# Altium integrated library Linear Technology Power Management uModule Regulators.IntLib: 166 symbols (part 58 of 67)
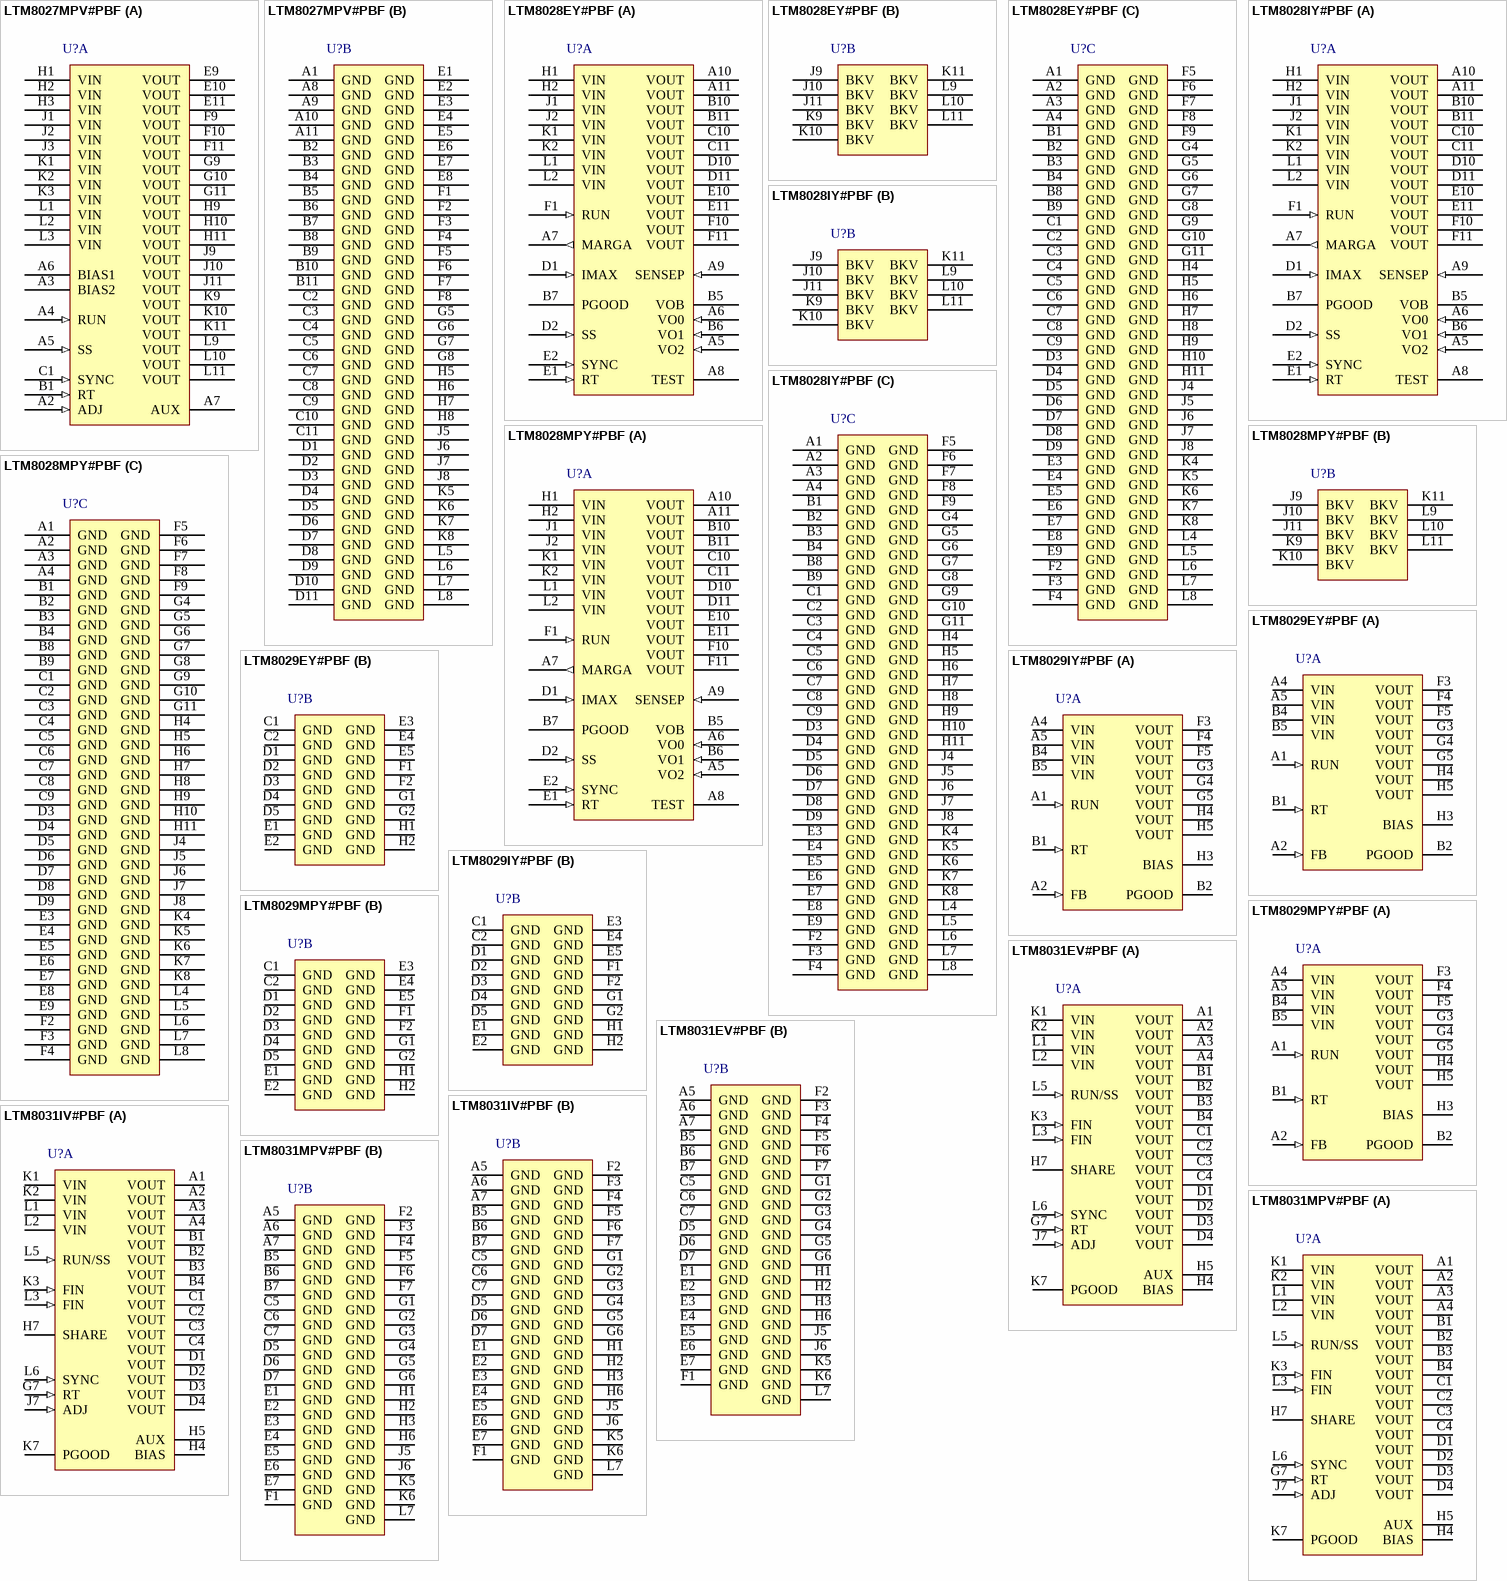
[diagram p84: symbols LTM8027MPV#PBF to LTM8031MPV#PBF]

## LTM8029MPY#PBF
designator U?
36 VIN, 600 mA Step-Down uModule Converter with 5 uA Quiescent Current, 35-pin BGA, -55 to 125 degC, Pb-Free, Tray; Manufacturer: Linear Technology; PartNumber: LTM8029MPY#PBF; Extended Temp: E, I, MP; Frequency Adjust Range: 200kHz - 2.2MHz; Frequency(kHz): 2200; Ishutdown(uA): 0.9; Isupply(mA): 0.005; Number of Outputs: 1; Output Current(A): 0.6; Synchronous: no; Topology: Buck; Vin Max(V): 36; Vin Min(V): 4.5; Vout Max(V): 18; Vout Min(V): 1.2; DatasheetVersion: Rev. A; PackageVersion: Rev. A, 01/2013; PackageReference: BGA-35; PackageDescription: 35-Ball BGA, Body 11.25 x 6.25 mm, Pitch 1.27 mm; Supplier 1: Digi-Key; Supplier Part Number 1: LTM8029MPY#PBF-ND; Supplier 2: Newark; Supplier Part Number 2: 87T1009; Packing: Tray; RoHS: TRUE; Switch Current(A): 1; Tracking: no; Mounting Technology: Surface Mount; Code_JEDEC: MS-028; ComponentLink1Description: Manufacturer URL; ComponentLink1URL: http://www.linear.com/; ComponentLink2Description: Datasheet; ComponentLink2URL: http://cds.linear.com/docs/en/datasheet/8029fa.pdf; ComponentLink3Description: Package Specification; ComponentLink3URL: http://cds.linear.com/docs/en/packaging/05081878_A_bga35.pdf
footprint LT-BGA-35-11250X6250X3420 (BGA, 35-Balls, Body 11.25x6.25mm, Pitch 1.27mm)
part A pins: A1 RUN (in) "Pull the RUN pin below 0.95V to shut down the LTM8029. Tie to 1.3V or more for normal operation. If the shutdown feature is not used, tie this pin to VIN.", A2 FB (in) "The LTM8029 regulates its FB pin to 1.2V. Connect the output feedback resistor from this pin to ground. The value of RFB is given by the equation RFB = 1200/(VOUT - 1.2), where RFB is in kohm.", A4 VIN (power) "The VIN pins supply current to the LTM8029’s internal regulator and to the internal power switch. This pin must be locally bypassed with an external, low ESR capacitor; see Table 1 for recommended values.", A5 VIN (power) "The VIN pins supply current to the LTM8029’s internal regulator and to the internal power switch. This pin must be locally bypassed with an external, low ESR capacitor; see Table 1 for recommended values.", B1 RT (in) "The RT pin is used to program the switching frequency of the LTM8029 by connecting a resistor from this pin to ground. The Applications Information section of the data sheet includes a table to determine the resistance value (See Datasheet)", B2 PGOOD (oc) "The PGOOD pin is the open-collector output of an internal comparator that monitors the FB pin. PGOOD remains low until the FB pin is within 10% of the final regulation voltage. PGOOD output is valid when VIN is above 4.5V (See Datasheet)", B4 VIN (power) "The VIN pins supply current to the LTM8029’s internal regulator and to the internal power switch. This pin must be locally bypassed with an external, low ESR capacitor; see Table 1 for recommended values.", B5 VIN (power) "The VIN pins supply current to the LTM8029’s internal regulator and to the internal power switch. This pin must be locally bypassed with an external, low ESR capacitor; see Table 1 for recommended values.", F3 VOUT (power) "Power Output Pins. Apply the output filter capacitor and the output load between these pins and GND pins.", F4 VOUT (power) "Power Output Pins. Apply the output filter capacitor and the output load between these pins and GND pins.", F5 VOUT (power) "Power Output Pins. Apply the output filter capacitor and the output load between these pins and GND pins.", G3 VOUT (power) "Power Output Pins. Apply the output filter capacitor and the output load between these pins and GND pins.", G4 VOUT (power) "Power Output Pins. Apply the output filter capacitor and the output load between these pins and GND pins.", G5 VOUT (power) "Power Output Pins. Apply the output filter capacitor and the output load between these pins and GND pins.", H3 BIAS (power) "The BIAS pin powers internal circuitry. Connect to a power source greater than 2.25V and less than 20V. If the output is greater than 2.25V, connect this pin there. Also, make sure that BIAS + VIN is less than 55V.", H4 VOUT (power) "Power Output Pins. Apply the output filter capacitor and the output load between these pins and GND pins.", H5 VOUT (power) "Power Output Pins. Apply the output filter capacitor and the output load between these pins and GND pins."
part B pins: C1 GND (power) "Tie these GND pins to a local ground plane below the LTM8029 and the circuit components. In most applications the bulk of the heat flow out of the LTM8029 is through these pads, so the printed circuit design has a large (See Datasheet)", C2 GND (power) "Tie these GND pins to a local ground plane below the LTM8029 and the circuit components. In most applications the bulk of the heat flow out of the LTM8029 is through these pads, so the printed circuit design has a large (See Datasheet)", D1 GND (power) "Tie these GND pins to a local ground plane below the LTM8029 and the circuit components. In most applications the bulk of the heat flow out of the LTM8029 is through these pads, so the printed circuit design has a large (See Datasheet)", D2 GND (power) "Tie these GND pins to a local ground plane below the LTM8029 and the circuit components. In most applications the bulk of the heat flow out of the LTM8029 is through these pads, so the printed circuit design has a large (See Datasheet)", D3 GND (power) "Tie these GND pins to a local ground plane below the LTM8029 and the circuit components. In most applications the bulk of the heat flow out of the LTM8029 is through these pads, so the printed circuit design has a large (See Datasheet)", D4 GND (power) "Tie these GND pins to a local ground plane below the LTM8029 and the circuit components. In most applications the bulk of the heat flow out of the LTM8029 is through these pads, so the printed circuit design has a large (See Datasheet)", D5 GND (power) "Tie these GND pins to a local ground plane below the LTM8029 and the circuit components. In most applications the bulk of the heat flow out of the LTM8029 is through these pads, so the printed circuit design has a large (See Datasheet)", E1 GND (power) "Tie these GND pins to a local ground plane below the LTM8029 and the circuit components. In most applications the bulk of the heat flow out of the LTM8029 is through these pads, so the printed circuit design has a large (See Datasheet)", E2 GND (power) "Tie these GND pins to a local ground plane below the LTM8029 and the circuit components. In most applications the bulk of the heat flow out of the LTM8029 is through these pads, so the printed circuit design has a large (See Datasheet)", E3 GND (power) "Tie these GND pins to a local ground plane below the LTM8029 and the circuit components. In most applications the bulk of the heat flow out of the LTM8029 is through these pads, so the printed circuit design has a large (See Datasheet)", E4 GND (power) "Tie these GND pins to a local ground plane below the LTM8029 and the circuit components. In most applications the bulk of the heat flow out of the LTM8029 is through these pads, so the printed circuit design has a large (See Datasheet)", E5 GND (power) "Tie these GND pins to a local ground plane below the LTM8029 and the circuit components. In most applications the bulk of the heat flow out of the LTM8029 is through these pads, so the printed circuit design has a large (See Datasheet)", F1 GND (power) "Tie these GND pins to a local ground plane below the LTM8029 and the circuit components. In most applications the bulk of the heat flow out of the LTM8029 is through these pads, so the printed circuit design has a large (See Datasheet)", F2 GND (power) "Tie these GND pins to a local ground plane below the LTM8029 and the circuit components. In most applications the bulk of the heat flow out of the LTM8029 is through these pads, so the printed circuit design has a large (See Datasheet)", G1 GND (power) "Tie these GND pins to a local ground plane below the LTM8029 and the circuit components. In most applications the bulk of the heat flow out of the LTM8029 is through these pads, so the printed circuit design has a large (See Datasheet)", G2 GND (power) "Tie these GND pins to a local ground plane below the LTM8029 and the circuit components. In most applications the bulk of the heat flow out of the LTM8029 is through these pads, so the printed circuit design has a large (See Datasheet)", H1 GND (power) "Tie these GND pins to a local ground plane below the LTM8029 and the circuit components. In most applications the bulk of the heat flow out of the LTM8029 is through these pads, so the printed circuit design has a large (See Datasheet)", H2 GND (power) "Tie these GND pins to a local ground plane below the LTM8029 and the circuit components. In most applications the bulk of the heat flow out of the LTM8029 is through these pads, so the printed circuit design has a large (See Datasheet)"

## LTM8031EV#PBF
designator U?
Ultralow Noise EMC 36 V, 1 A DC/DC uModule Regulator, 71-pin LGA, -40 to 125 degC, Pb-Free, Tray; Manufacturer: Linear Technology; PartNumber: LTM8031EV#PBF; Extended Temp: E, I, MP; Frequency Adjust Range: 200kHz - 2.4MHz; Frequency Sync Range: 250kHz - 2MHz; Frequency(kHz): 2400; Ishutdown(uA): 1; Isupply(mA): 0.06; Switch Current(A): 1.5; Synchronous: no; Topology: Buck; Vin Max(V): 36; Vin Min(V): 3.6; Vout Max(V): 10; Vout Min(V): 0.8; DatasheetVersion: Rev. B; PackageVersion: Rev. A, 01/2013; PackageReference: LGA-71; PackageDescription: 71-Pin LGA, Body 15 x 9 mm, Pitch 1.27 mm; Supplier 1: Digi-Key; Supplier Part Number 1: LTM8031EV#PBF-ND; Supplier 2: Farnell; Supplier Part Number 2: 2308636; Supplier 3: Newark; Supplier Part Number 3: 68R7661; Number of Outputs: 1; Output Current(A): 1; Packing: Tray; RoHS: TRUE; Tracking: no; Mounting Technology: Surface Mount; Code_JEDEC: MO-222; ComponentLink1Description: Manufacturer URL; ComponentLink1URL: http://www.linear.com/; ComponentLink2Description: Datasheet; ComponentLink2URL: http://cds.linear.com/docs/en/datasheet/8031fb.pdf; ComponentLink3Description: Package Specification; ComponentLink3URL: http://cds.linear.com/docs/en/packaging/05081823_A_lga71.pdf
footprint LT-LGA-71-15000X9000X2820_V (LGA, 71-Leads, Body 15x9mm, Pitch 1.27mm)
part A pins: A1 VOUT (power) "Power Output Pins. Apply the output filter capacitor and the output load between these pins and GND pins.", A2 VOUT (power) "Power Output Pins. Apply the output filter capacitor and the output load between these pins and GND pins.", A3 VOUT (power) "Power Output Pins. Apply the output filter capacitor and the output load between these pins and GND pins.", A4 VOUT (power) "Power Output Pins. Apply the output filter capacitor and the output load between these pins and GND pins.", B1 VOUT (power) "Power Output Pins. Apply the output filter capacitor and the output load between these pins and GND pins.", B2 VOUT (power) "Power Output Pins. Apply the output filter capacitor and the output load between these pins and GND pins.", B3 VOUT (power) "Power Output Pins. Apply the output filter capacitor and the output load between these pins and GND pins.", B4 VOUT (power) "Power Output Pins. Apply the output filter capacitor and the output load between these pins and GND pins.", C1 VOUT (power) "Power Output Pins. Apply the output filter capacitor and the output load between these pins and GND pins.", C2 VOUT (power) "Power Output Pins. Apply the output filter capacitor and the output load between these pins and GND pins.", C3 VOUT (power) "Power Output Pins. Apply the output filter capacitor and the output load between these pins and GND pins.", C4 VOUT (power) "Power Output Pins. Apply the output filter capacitor and the output load between these pins and GND pins.", D1 VOUT (power) "Power Output Pins. Apply the output filter capacitor and the output load between these pins and GND pins.", D2 VOUT (power) "Power Output Pins. Apply the output filter capacitor and the output load between these pins and GND pins.", D3 VOUT (power) "Power Output Pins. Apply the output filter capacitor and the output load between these pins and GND pins.", D4 VOUT (power) "Power Output Pins. Apply the output filter capacitor and the output load between these pins and GND pins.", G7 RT (in), H4 BIAS (power) "The BIAS pin connects to the internal power bus. Connect to a power source greater than 2.8V. If the output is greater than 2.8V, connect this pin to AUX. If the output voltage is less, connect this to a voltage source (See Datasheet)", H5 AUX (power) "Low Current Voltage Source for BIAS. The AUX pin is internally connected to VOUT and is placed adjacent to the BIAS pin to ease printed circuit board routing. Although this pin is internally connected to VOUT, do not connect (See Datasheet)", H7 SHARE, J7 ADJ (in), K1 VIN (power), K2 VIN (power), K3 FIN (in) "Filtered Input. This is the node after the input EMI filter. Use this only if there is a need to modify the behavior of the integrated EMI filter or if VIN rises or falls rapidly; otherwise, leave these pins unconnected. See (See Datasheet)", K7 PGOOD (oc) "The PGOOD pin is the open-collector output of an internal comparator. PGOOD remains low until the ADJ pin is within 10% of the final regulation voltage. The PGOOD output is valid when VIN is above 3.6V and RUN/SS is high. If (See Datasheet)", L1 VIN (power), L2 VIN (power), L3 FIN (in) "Filtered Input. This is the node after the input EMI filter. Use this only if there is a need to modify the behavior of the integrated EMI filter or if VIN rises or falls rapidly; otherwise, leave these pins unconnected. See (See Datasheet)", L5 RUN/SS (in), L6 SYNC (in) "This is the external clock synchronization input. Ground this pin for low ripple Burst Mode(R) operation at low output loads. Tie to a stable voltage source greater than 0.7V to disable Burst Mode operation. Do not leave (See Datasheet)"
part B pins: A5 GND (power), A6 GND (power), A7 GND (power), B5 GND (power), B6 GND (power), B7 GND (power), C5 GND (power), C6 GND (power), C7 GND (power), D5 GND (power), D6 GND (power), D7 GND (power), E1 GND (power), E2 GND (power), E3 GND (power), E4 GND (power), E5 GND (power), E6 GND (power), E7 GND (power), F1 GND (power), F2 GND (power), F3 GND (power), F4 GND (power), F5 GND (power), F6 GND (power), F7 GND (power), G1 GND (power), G2 GND (power), G3 GND (power), G4 GND (power), G5 GND (power), G6 GND (power), H1 GND (power), H2 GND (power), H3 GND (power), H6 GND (power), J5 GND (power), J6 GND (power), K5 GND (power), K6 GND (power), L7 GND (power)

## LTM8031IV#PBF
designator U?
Ultralow Noise EMC 36 V, 1 A DC/DC uModule Regulator, 71-pin LGA, -40 to 125 degC, Pb-Free, Tray; Manufacturer: Linear Technology; PartNumber: LTM8031IV#PBF; Extended Temp: E, I, MP; Frequency Adjust Range: 200kHz - 2.4MHz; Frequency Sync Range: 250kHz - 2MHz; Frequency(kHz): 2400; Ishutdown(uA): 1; Isupply(mA): 0.06; Switch Current(A): 1.5; Synchronous: no; Topology: Buck; Vin Max(V): 36; Vin Min(V): 3.6; Vout Max(V): 10; Vout Min(V): 0.8; DatasheetVersion: Rev. B; PackageVersion: Rev. A, 01/2013; PackageReference: LGA-71; PackageDescription: 71-Pin LGA, Body 15 x 9 mm, Pitch 1.27 mm; Supplier 1: Digi-Key; Supplier Part Number 1: LTM8031IV#PBF-ND; Supplier 2: Farnell; Supplier Part Number 2: 2115895; Supplier 3: Newark; Supplier Part Number 3: 68R7662; Number of Outputs: 1; Output Current(A): 1; Packing: Tray; RoHS: TRUE; Tracking: no; Mounting Technology: Surface Mount; Code_JEDEC: MO-222; ComponentLink1Description: Manufacturer URL; ComponentLink1URL: http://www.linear.com/; ComponentLink2Description: Datasheet; ComponentLink2URL: http://cds.linear.com/docs/en/datasheet/8031fb.pdf; ComponentLink3Description: Package Specification; ComponentLink3URL: http://cds.linear.com/docs/en/packaging/05081823_A_lga71.pdf
footprint LT-LGA-71-15000X9000X2820_V (LGA, 71-Leads, Body 15x9mm, Pitch 1.27mm)
part A pins: A1 VOUT (power) "Power Output Pins. Apply the output filter capacitor and the output load between these pins and GND pins.", A2 VOUT (power) "Power Output Pins. Apply the output filter capacitor and the output load between these pins and GND pins.", A3 VOUT (power) "Power Output Pins. Apply the output filter capacitor and the output load between these pins and GND pins.", A4 VOUT (power) "Power Output Pins. Apply the output filter capacitor and the output load between these pins and GND pins.", B1 VOUT (power) "Power Output Pins. Apply the output filter capacitor and the output load between these pins and GND pins.", B2 VOUT (power) "Power Output Pins. Apply the output filter capacitor and the output load between these pins and GND pins.", B3 VOUT (power) "Power Output Pins. Apply the output filter capacitor and the output load between these pins and GND pins.", B4 VOUT (power) "Power Output Pins. Apply the output filter capacitor and the output load between these pins and GND pins.", C1 VOUT (power) "Power Output Pins. Apply the output filter capacitor and the output load between these pins and GND pins.", C2 VOUT (power) "Power Output Pins. Apply the output filter capacitor and the output load between these pins and GND pins.", C3 VOUT (power) "Power Output Pins. Apply the output filter capacitor and the output load between these pins and GND pins.", C4 VOUT (power) "Power Output Pins. Apply the output filter capacitor and the output load between these pins and GND pins.", D1 VOUT (power) "Power Output Pins. Apply the output filter capacitor and the output load between these pins and GND pins.", D2 VOUT (power) "Power Output Pins. Apply the output filter capacitor and the output load between these pins and GND pins.", D3 VOUT (power) "Power Output Pins. Apply the output filter capacitor and the output load between these pins and GND pins.", D4 VOUT (power) "Power Output Pins. Apply the output filter capacitor and the output load between these pins and GND pins.", G7 RT (in), H4 BIAS (power) "The BIAS pin connects to the internal power bus. Connect to a power source greater than 2.8V. If the output is greater than 2.8V, connect this pin to AUX. If the output voltage is less, connect this to a voltage source (See Datasheet)", H5 AUX (power) "Low Current Voltage Source for BIAS. The AUX pin is internally connected to VOUT and is placed adjacent to the BIAS pin to ease printed circuit board routing. Although this pin is internally connected to VOUT, do not connect (See Datasheet)", H7 SHARE, J7 ADJ (in), K1 VIN (power), K2 VIN (power), K3 FIN (in) "Filtered Input. This is the node after the input EMI filter. Use this only if there is a need to modify the behavior of the integrated EMI filter or if VIN rises or falls rapidly; otherwise, leave these pins unconnected. See (See Datasheet)", K7 PGOOD (oc) "The PGOOD pin is the open-collector output of an internal comparator. PGOOD remains low until the ADJ pin is within 10% of the final regulation voltage. The PGOOD output is valid when VIN is above 3.6V and RUN/SS is high. If (See Datasheet)", L1 VIN (power), L2 VIN (power), L3 FIN (in) "Filtered Input. This is the node after the input EMI filter. Use this only if there is a need to modify the behavior of the integrated EMI filter or if VIN rises or falls rapidly; otherwise, leave these pins unconnected. See (See Datasheet)", L5 RUN/SS (in), L6 SYNC (in) "This is the external clock synchronization input. Ground this pin for low ripple Burst Mode(R) operation at low output loads. Tie to a stable voltage source greater than 0.7V to disable Burst Mode operation. Do not leave (See Datasheet)"
part B pins: A5 GND (power), A6 GND (power), A7 GND (power), B5 GND (power), B6 GND (power), B7 GND (power), C5 GND (power), C6 GND (power), C7 GND (power), D5 GND (power), D6 GND (power), D7 GND (power), E1 GND (power), E2 GND (power), E3 GND (power), E4 GND (power), E5 GND (power), E6 GND (power), E7 GND (power), F1 GND (power), F2 GND (power), F3 GND (power), F4 GND (power), F5 GND (power), F6 GND (power), F7 GND (power), G1 GND (power), G2 GND (power), G3 GND (power), G4 GND (power), G5 GND (power), G6 GND (power), H1 GND (power), H2 GND (power), H3 GND (power), H6 GND (power), J5 GND (power), J6 GND (power), K5 GND (power), K6 GND (power), L7 GND (power)

## LTM8031MPV#PBF
designator U?
Ultralow Noise EMC 36 V, 1 A DC/DC uModule Regulator, 71-pin LGA, -55 to 125 degC, Pb-Free, Tray; Manufacturer: Linear Technology; PartNumber: LTM8031MPV#PBF; Extended Temp: E, I, MP; Frequency Adjust Range: 200kHz - 2.4MHz; Frequency Sync Range: 250kHz - 2MHz; Frequency(kHz): 2400; Ishutdown(uA): 1; Isupply(mA): 0.06; Switch Current(A): 1.5; Synchronous: no; Topology: Buck; Vin Max(V): 36; Vin Min(V): 3.6; Vout Max(V): 10; Vout Min(V): 0.8; DatasheetVersion: Rev. B; PackageVersion: Rev. A, 01/2013; PackageReference: LGA-71; PackageDescription: 71-Pin LGA, Body 15 x 9 mm, Pitch 1.27 mm; Supplier 1: Digi-Key; Supplier Part Number 1: LTM8031MPV#PBF-ND; Supplier 2: Farnell; Supplier Part Number 2: 1847471; Supplier 3: Farnell; Supplier Part Number 3: 1838297; Supplier 4: Newark; Supplier Part Number 4: 84R5011; Number of Outputs: 1; Output Current(A): 1; Packing: Tray; RoHS: TRUE; Tracking: no; Mounting Technology: Surface Mount; Code_JEDEC: MO-222; ComponentLink1Description: Manufacturer URL; ComponentLink1URL: http://www.linear.com/; ComponentLink2Description: Datasheet; ComponentLink2URL: http://cds.linear.com/docs/en/datasheet/8031fb.pdf; ComponentLink3Description: Package Specification; ComponentLink3URL: http://cds.linear.com/docs/en/packaging/05081823_A_lga71.pdf
footprint LT-LGA-71-15000X9000X2820_V (LGA, 71-Leads, Body 15x9mm, Pitch 1.27mm)
part A pins: A1 VOUT (power) "Power Output Pins. Apply the output filter capacitor and the output load between these pins and GND pins.", A2 VOUT (power) "Power Output Pins. Apply the output filter capacitor and the output load between these pins and GND pins.", A3 VOUT (power) "Power Output Pins. Apply the output filter capacitor and the output load between these pins and GND pins.", A4 VOUT (power) "Power Output Pins. Apply the output filter capacitor and the output load between these pins and GND pins.", B1 VOUT (power) "Power Output Pins. Apply the output filter capacitor and the output load between these pins and GND pins.", B2 VOUT (power) "Power Output Pins. Apply the output filter capacitor and the output load between these pins and GND pins.", B3 VOUT (power) "Power Output Pins. Apply the output filter capacitor and the output load between these pins and GND pins.", B4 VOUT (power) "Power Output Pins. Apply the output filter capacitor and the output load between these pins and GND pins.", C1 VOUT (power) "Power Output Pins. Apply the output filter capacitor and the output load between these pins and GND pins.", C2 VOUT (power) "Power Output Pins. Apply the output filter capacitor and the output load between these pins and GND pins.", C3 VOUT (power) "Power Output Pins. Apply the output filter capacitor and the output load between these pins and GND pins.", C4 VOUT (power) "Power Output Pins. Apply the output filter capacitor and the output load between these pins and GND pins.", D1 VOUT (power) "Power Output Pins. Apply the output filter capacitor and the output load between these pins and GND pins.", D2 VOUT (power) "Power Output Pins. Apply the output filter capacitor and the output load between these pins and GND pins.", D3 VOUT (power) "Power Output Pins. Apply the output filter capacitor and the output load between these pins and GND pins.", D4 VOUT (power) "Power Output Pins. Apply the output filter capacitor and the output load between these pins and GND pins.", G7 RT (in), H4 BIAS (power) "The BIAS pin connects to the internal power bus. Connect to a power source greater than 2.8V. If the output is greater than 2.8V, connect this pin to AUX. If the output voltage is less, connect this to a voltage source (See Datasheet)", H5 AUX (power) "Low Current Voltage Source for BIAS. The AUX pin is internally connected to VOUT and is placed adjacent to the BIAS pin to ease printed circuit board routing. Although this pin is internally connected to VOUT, do not connect (See Datasheet)", H7 SHARE, J7 ADJ (in), K1 VIN (power), K2 VIN (power), K3 FIN (in) "Filtered Input. This is the node after the input EMI filter. Use this only if there is a need to modify the behavior of the integrated EMI filter or if VIN rises or falls rapidly; otherwise, leave these pins unconnected. See (See Datasheet)", K7 PGOOD (oc) "The PGOOD pin is the open-collector output of an internal comparator. PGOOD remains low until the ADJ pin is within 10% of the final regulation voltage. The PGOOD output is valid when VIN is above 3.6V and RUN/SS is high. If (See Datasheet)", L1 VIN (power), L2 VIN (power), L3 FIN (in) "Filtered Input. This is the node after the input EMI filter. Use this only if there is a need to modify the behavior of the integrated EMI filter or if VIN rises or falls rapidly; otherwise, leave these pins unconnected. See (See Datasheet)", L5 RUN/SS (in), L6 SYNC (in) "This is the external clock synchronization input. Ground this pin for low ripple Burst Mode(R) operation at low output loads. Tie to a stable voltage source greater than 0.7V to disable Burst Mode operation. Do not leave (See Datasheet)"
part B pins: A5 GND (power), A6 GND (power), A7 GND (power), B5 GND (power), B6 GND (power), B7 GND (power), C5 GND (power), C6 GND (power), C7 GND (power), D5 GND (power), D6 GND (power), D7 GND (power), E1 GND (power), E2 GND (power), E3 GND (power), E4 GND (power), E5 GND (power), E6 GND (power), E7 GND (power), F1 GND (power), F2 GND (power), F3 GND (power), F4 GND (power), F5 GND (power), F6 GND (power), F7 GND (power), G1 GND (power), G2 GND (power), G3 GND (power), G4 GND (power), G5 GND (power), G6 GND (power), H1 GND (power), H2 GND (power), H3 GND (power), H6 GND (power), J5 GND (power), J6 GND (power), K5 GND (power), K6 GND (power), L7 GND (power)

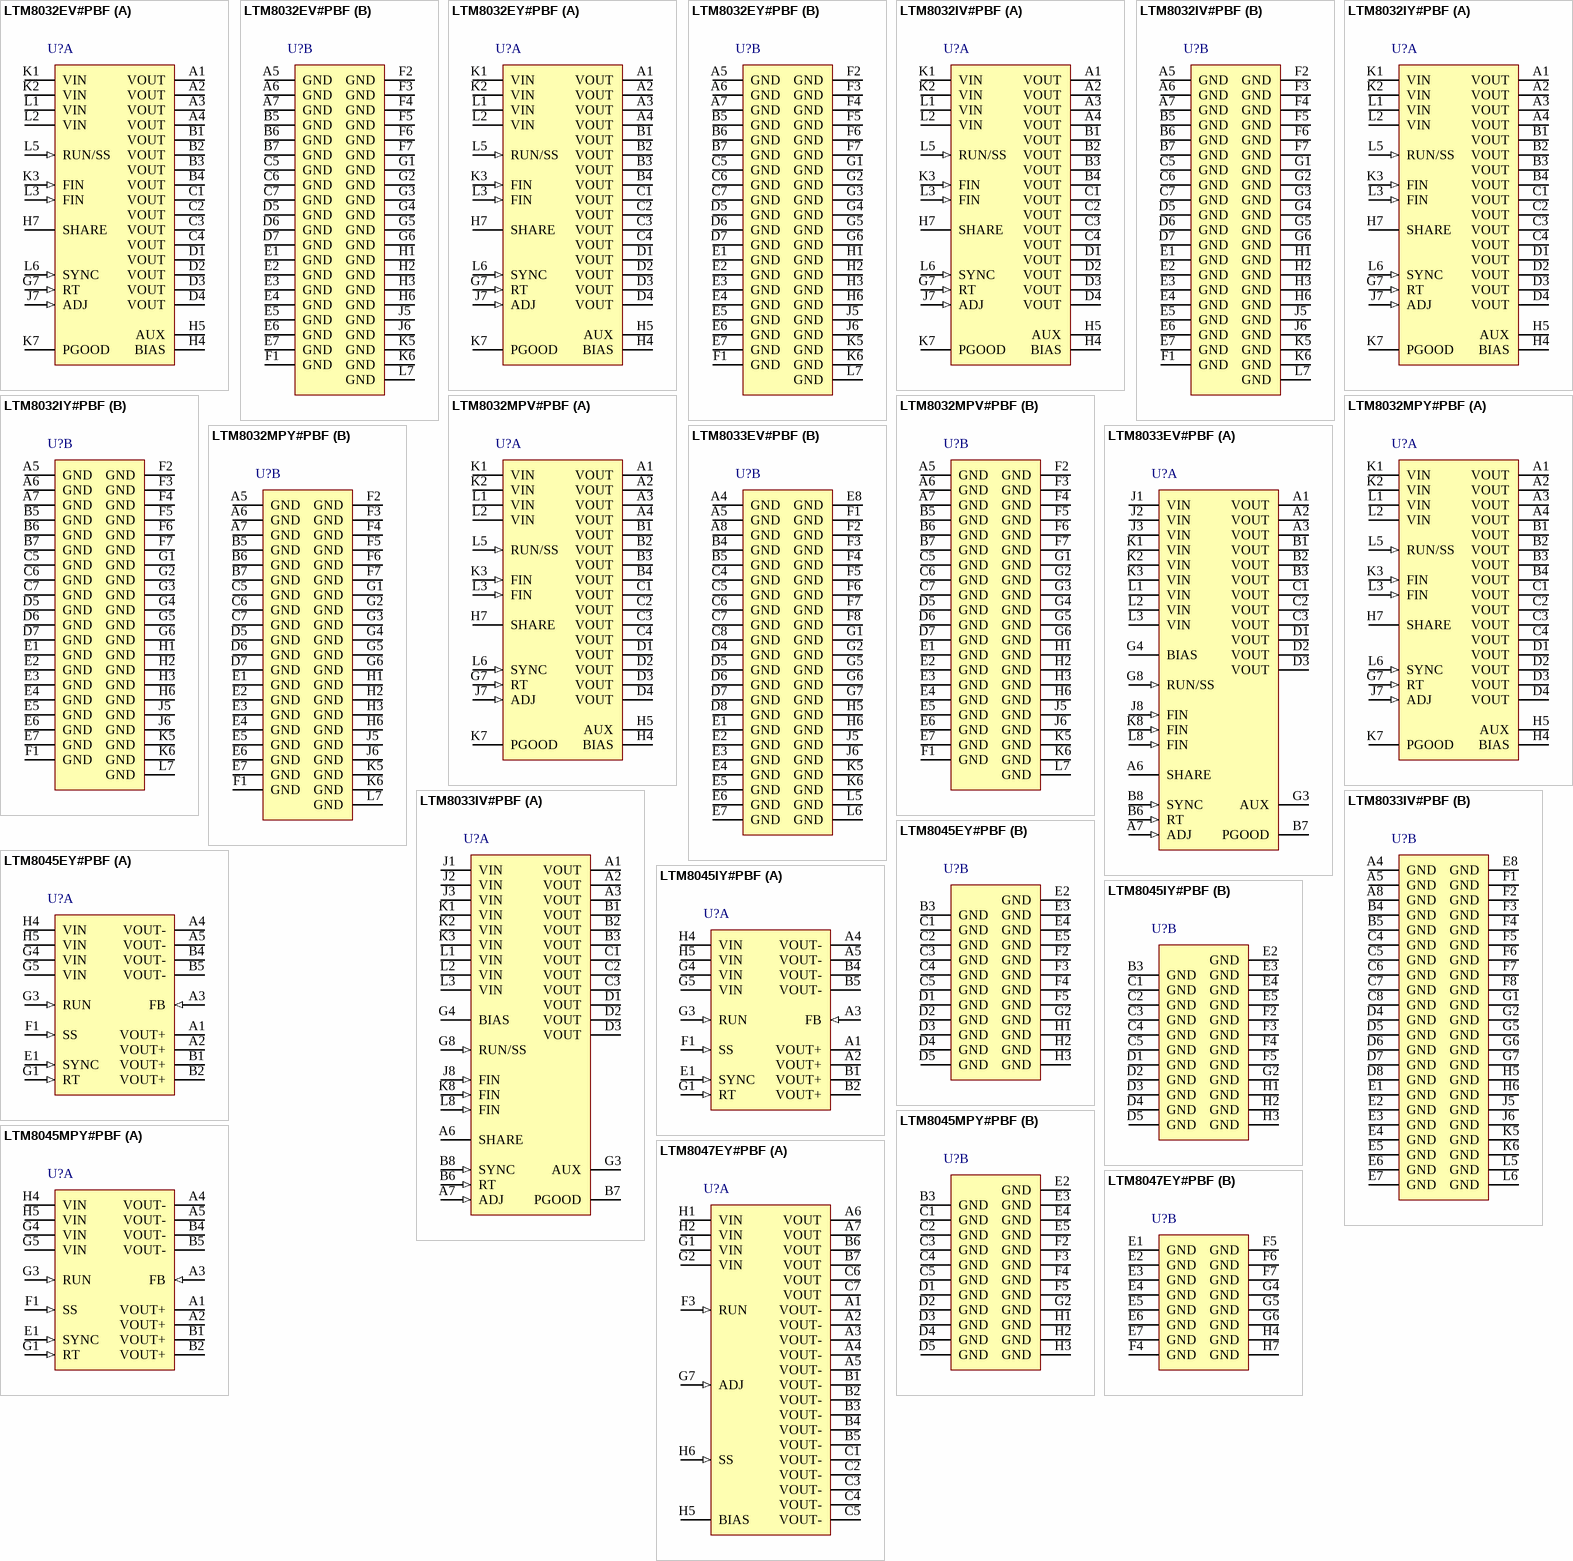
[diagram p24: symbols LTM8032EV#PBF to LTM8047EY#PBF]

## LTM8032EV#PBF
designator U?
EN55022B Compliant 36 V, 2 A DC/DC uModule Regulator, 71-pin LGA, -40 to 125 degC, Pb-Free, Tray; Manufacturer: Linear Technology; PartNumber: LTM8032EV#PBF; Extended Temp: E, I, MP; Frequency Adjust Range: 200kHz - 2.4MHz; Frequency Sync Range: 250kHz - 2MHz; Frequency(kHz): 2400; Ishutdown(uA): 1; Isupply(mA): 0.025; Output Current(A): 2; Switch Current(A): 3; Synchronous: no; Topology: Buck; Vin Max(V): 36; Vin Min(V): 3.6; DatasheetVersion: Rev. F; PackageVersion: Rev. A, 01/2013; PackageReference: LGA-71; PackageDescription: 71-Pin LGA, Body 15 x 9 mm, Pitch 1.27 mm; Supplier 1: Digi-Key; Supplier Part Number 1: LTM8032EV#PBF-ND; Supplier 2: Farnell; Supplier Part Number 2: 1799832; Supplier 3: Newark; Supplier Part Number 3: 56P4238; Number of Outputs: 1; Packing: Tray; RoHS: TRUE; Tracking: no; Mounting Technology: Surface Mount; Code_JEDEC: MO-222; ComponentLink1Description: Manufacturer URL; ComponentLink1URL: http://www.linear.com/; ComponentLink2Description: Datasheet; ComponentLink2URL: http://cds.linear.com/docs/en/datasheet/8032ff.pdf; ComponentLink3Description: Package Specification; ComponentLink3URL: http://cds.linear.com/docs/en/packaging/05081823_A_lga71.pdf
footprint LT-LGA-71-15000X9000X2820_V (LGA, 71-Leads, Body 15x9mm, Pitch 1.27mm)
part A pins: A1 VOUT (power) "Power Output Pins. Apply the output filter capacitor and the output load between these pins and GND pins.", A2 VOUT (power) "Power Output Pins. Apply the output filter capacitor and the output load between these pins and GND pins.", A3 VOUT (power) "Power Output Pins. Apply the output filter capacitor and the output load between these pins and GND pins.", A4 VOUT (power) "Power Output Pins. Apply the output filter capacitor and the output load between these pins and GND pins.", B1 VOUT (power) "Power Output Pins. Apply the output filter capacitor and the output load between these pins and GND pins.", B2 VOUT (power) "Power Output Pins. Apply the output filter capacitor and the output load between these pins and GND pins.", B3 VOUT (power) "Power Output Pins. Apply the output filter capacitor and the output load between these pins and GND pins.", B4 VOUT (power) "Power Output Pins. Apply the output filter capacitor and the output load between these pins and GND pins.", C1 VOUT (power) "Power Output Pins. Apply the output filter capacitor and the output load between these pins and GND pins.", C2 VOUT (power) "Power Output Pins. Apply the output filter capacitor and the output load between these pins and GND pins.", C3 VOUT (power) "Power Output Pins. Apply the output filter capacitor and the output load between these pins and GND pins.", C4 VOUT (power) "Power Output Pins. Apply the output filter capacitor and the output load between these pins and GND pins.", D1 VOUT (power) "Power Output Pins. Apply the output filter capacitor and the output load between these pins and GND pins.", D2 VOUT (power) "Power Output Pins. Apply the output filter capacitor and the output load between these pins and GND pins.", D3 VOUT (power) "Power Output Pins. Apply the output filter capacitor and the output load between these pins and GND pins.", D4 VOUT (power) "Power Output Pins. Apply the output filter capacitor and the output load between these pins and GND pins.", G7 RT (in), H4 BIAS (power) "The BIAS pin connects to the internal power bus. Connect to a power source greater than 2.8V. If the output is greater than 2.8V, connect this pin to AUX. If the output voltage is less, connect this to a voltage source (See Datasheet)", H5 AUX (power) "Low Current Voltage Source for BIAS. The AUX pin is internally connected to VOUT and is placed adjacent to the BIAS pin to ease printed circuit board routing. Although this pin is internally connected to VOUT, do not connect (See Datasheet)", H7 SHARE, J7 ADJ (in), K1 VIN (power), K2 VIN (power), K3 FIN (in) "Filtered Input. This is the node after the input EMI filter. Use this only if there is a need to modify the behavior of the integrated EMI filter or if VIN rises or falls rapidly; otherwise, leave these pins unconnected. See (See Datasheet)", K7 PGOOD (oc) "The PGOOD pin is the open-collector output of an internal comparator. PGOOD remains low until the ADJ pin is within 10% of the final regulation voltage. The PGOOD output is valid when VIN is above 3.6V and RUN/SS is high. If (See Datasheet)", L1 VIN (power), L2 VIN (power), L3 FIN (in) "Filtered Input. This is the node after the input EMI filter. Use this only if there is a need to modify the behavior of the integrated EMI filter or if VIN rises or falls rapidly; otherwise, leave these pins unconnected. See (See Datasheet)", L5 RUN/SS (in), L6 SYNC (in) "This is the external clock synchronization input. Ground this pin for low ripple Burst Mode(R) operation at low output loads. Tie to a stable voltage source greater than 0.7V to disable Burst Mode operation. Do not leave (See Datasheet)"
part B pins: A5 GND (power), A6 GND (power), A7 GND (power), B5 GND (power), B6 GND (power), B7 GND (power), C5 GND (power), C6 GND (power), C7 GND (power), D5 GND (power), D6 GND (power), D7 GND (power), E1 GND (power), E2 GND (power), E3 GND (power), E4 GND (power), E5 GND (power), E6 GND (power), E7 GND (power), F1 GND (power), F2 GND (power), F3 GND (power), F4 GND (power), F5 GND (power), F6 GND (power), F7 GND (power), G1 GND (power), G2 GND (power), G3 GND (power), G4 GND (power), G5 GND (power), G6 GND (power), H1 GND (power), H2 GND (power), H3 GND (power), H6 GND (power), J5 GND (power), J6 GND (power), K5 GND (power), K6 GND (power), L7 GND (power)

## LTM8032EY#PBF
designator U?
EN55022B Compliant 36 V, 2 A DC/DC uModule Regulator, 71-pin BGA, -40 to 125 degC, Pb-Free, Tray; Manufacturer: Linear Technology; PartNumber: LTM8032EY#PBF; Extended Temp: E, I, MP; Frequency Adjust Range: 200kHz - 2.4MHz; Frequency Sync Range: 250kHz - 2MHz; Frequency(kHz): 2400; Ishutdown(uA): 1; Isupply(mA): 0.025; Output Current(A): 2; Switch Current(A): 3; Synchronous: no; Topology: Buck; Vin Max(V): 36; Vin Min(V): 3.6; DatasheetVersion: Rev. F; PackageVersion: Rev. A, 01/2013; PackageReference: BGA-71; PackageDescription: 71-Ball BGA, Body 15 x 9 mm, Pitch 1.27 mm; Supplier 1: Digi-Key; Supplier Part Number 1: LTM8032EY#PBF-ND; Supplier 2: Farnell; Supplier Part Number 2: 2068085; Supplier 3: Newark; Supplier Part Number 3: 78T3669; Number of Outputs: 1; Packing: Tray; RoHS: TRUE; Tracking: no; Mounting Technology: Surface Mount; Code_JEDEC: MS-028; ComponentLink1Description: Manufacturer URL; ComponentLink1URL: http://www.linear.com/; ComponentLink2Description: Datasheet; ComponentLink2URL: http://cds.linear.com/docs/en/datasheet/8032ff.pdf; ComponentLink3Description: Package Specification; ComponentLink3URL: http://cds.linear.com/docs/en/packaging/05081885_A_bga71.pdf
footprint LT-BGA-71-15000X9000X3420 (BGA, 71-Balls, Body 15x9mm, Pitch 1.27mm)
part A pins: A1 VOUT (power) "Power Output Pins. Apply the output filter capacitor and the output load between these pins and GND pins.", A2 VOUT (power) "Power Output Pins. Apply the output filter capacitor and the output load between these pins and GND pins.", A3 VOUT (power) "Power Output Pins. Apply the output filter capacitor and the output load between these pins and GND pins.", A4 VOUT (power) "Power Output Pins. Apply the output filter capacitor and the output load between these pins and GND pins.", B1 VOUT (power) "Power Output Pins. Apply the output filter capacitor and the output load between these pins and GND pins.", B2 VOUT (power) "Power Output Pins. Apply the output filter capacitor and the output load between these pins and GND pins.", B3 VOUT (power) "Power Output Pins. Apply the output filter capacitor and the output load between these pins and GND pins.", B4 VOUT (power) "Power Output Pins. Apply the output filter capacitor and the output load between these pins and GND pins.", C1 VOUT (power) "Power Output Pins. Apply the output filter capacitor and the output load between these pins and GND pins.", C2 VOUT (power) "Power Output Pins. Apply the output filter capacitor and the output load between these pins and GND pins.", C3 VOUT (power) "Power Output Pins. Apply the output filter capacitor and the output load between these pins and GND pins.", C4 VOUT (power) "Power Output Pins. Apply the output filter capacitor and the output load between these pins and GND pins.", D1 VOUT (power) "Power Output Pins. Apply the output filter capacitor and the output load between these pins and GND pins.", D2 VOUT (power) "Power Output Pins. Apply the output filter capacitor and the output load between these pins and GND pins.", D3 VOUT (power) "Power Output Pins. Apply the output filter capacitor and the output load between these pins and GND pins.", D4 VOUT (power) "Power Output Pins. Apply the output filter capacitor and the output load between these pins and GND pins.", G7 RT (in), H4 BIAS (power) "The BIAS pin connects to the internal power bus. Connect to a power source greater than 2.8V. If the output is greater than 2.8V, connect this pin to AUX. If the output voltage is less, connect this to a voltage source (See Datasheet)", H5 AUX (power) "Low Current Voltage Source for BIAS. The AUX pin is internally connected to VOUT and is placed adjacent to the BIAS pin to ease printed circuit board routing. Although this pin is internally connected to VOUT, do not connect (See Datasheet)", H7 SHARE, J7 ADJ (in), K1 VIN (power), K2 VIN (power), K3 FIN (in) "Filtered Input. This is the node after the input EMI filter. Use this only if there is a need to modify the behavior of the integrated EMI filter or if VIN rises or falls rapidly; otherwise, leave these pins unconnected. See (See Datasheet)", K7 PGOOD (oc) "The PGOOD pin is the open-collector output of an internal comparator. PGOOD remains low until the ADJ pin is within 10% of the final regulation voltage. The PGOOD output is valid when VIN is above 3.6V and RUN/SS is high. If (See Datasheet)", L1 VIN (power), L2 VIN (power), L3 FIN (in) "Filtered Input. This is the node after the input EMI filter. Use this only if there is a need to modify the behavior of the integrated EMI filter or if VIN rises or falls rapidly; otherwise, leave these pins unconnected. See (See Datasheet)", L5 RUN/SS (in), L6 SYNC (in) "This is the external clock synchronization input. Ground this pin for low ripple Burst Mode(R) operation at low output loads. Tie to a stable voltage source greater than 0.7V to disable Burst Mode operation. Do not leave (See Datasheet)"
part B pins: A5 GND (power), A6 GND (power), A7 GND (power), B5 GND (power), B6 GND (power), B7 GND (power), C5 GND (power), C6 GND (power), C7 GND (power), D5 GND (power), D6 GND (power), D7 GND (power), E1 GND (power), E2 GND (power), E3 GND (power), E4 GND (power), E5 GND (power), E6 GND (power), E7 GND (power), F1 GND (power), F2 GND (power), F3 GND (power), F4 GND (power), F5 GND (power), F6 GND (power), F7 GND (power), G1 GND (power), G2 GND (power), G3 GND (power), G4 GND (power), G5 GND (power), G6 GND (power), H1 GND (power), H2 GND (power), H3 GND (power), H6 GND (power), J5 GND (power), J6 GND (power), K5 GND (power), K6 GND (power), L7 GND (power)

## LTM8032IV#PBF
designator U?
EN55022B Compliant 36 V, 2 A DC/DC uModule Regulator, 71-pin LGA, -40 to 125 degC, Pb-Free, Tray; Manufacturer: Linear Technology; PartNumber: LTM8032IV#PBF; Extended Temp: E, I, MP; Frequency Adjust Range: 200kHz - 2.4MHz; Frequency Sync Range: 250kHz - 2MHz; Frequency(kHz): 2400; Ishutdown(uA): 1; Isupply(mA): 0.025; Output Current(A): 2; Switch Current(A): 3; Synchronous: no; Topology: Buck; Vin Max(V): 36; Vin Min(V): 3.6; DatasheetVersion: Rev. F; PackageVersion: Rev. A, 01/2013; PackageReference: LGA-71; PackageDescription: 71-Pin LGA, Body 15 x 9 mm, Pitch 1.27 mm; Supplier 1: Digi-Key; Supplier Part Number 1: LTM8032IV#PBF-ND; Supplier 2: Farnell; Supplier Part Number 2: 2115896; Supplier 3: Newark; Supplier Part Number 3: 71P8119; Number of Outputs: 1; Packing: Tray; RoHS: TRUE; Tracking: no; Mounting Technology: Surface Mount; Code_JEDEC: MO-222; ComponentLink1Description: Manufacturer URL; ComponentLink1URL: http://www.linear.com/; ComponentLink2Description: Datasheet; ComponentLink2URL: http://cds.linear.com/docs/en/datasheet/8032ff.pdf; ComponentLink3Description: Package Specification; ComponentLink3URL: http://cds.linear.com/docs/en/packaging/05081823_A_lga71.pdf
footprint LT-LGA-71-15000X9000X2820_V (LGA, 71-Leads, Body 15x9mm, Pitch 1.27mm)
part A pins: A1 VOUT (power) "Power Output Pins. Apply the output filter capacitor and the output load between these pins and GND pins.", A2 VOUT (power) "Power Output Pins. Apply the output filter capacitor and the output load between these pins and GND pins.", A3 VOUT (power) "Power Output Pins. Apply the output filter capacitor and the output load between these pins and GND pins.", A4 VOUT (power) "Power Output Pins. Apply the output filter capacitor and the output load between these pins and GND pins.", B1 VOUT (power) "Power Output Pins. Apply the output filter capacitor and the output load between these pins and GND pins.", B2 VOUT (power) "Power Output Pins. Apply the output filter capacitor and the output load between these pins and GND pins.", B3 VOUT (power) "Power Output Pins. Apply the output filter capacitor and the output load between these pins and GND pins.", B4 VOUT (power) "Power Output Pins. Apply the output filter capacitor and the output load between these pins and GND pins.", C1 VOUT (power) "Power Output Pins. Apply the output filter capacitor and the output load between these pins and GND pins.", C2 VOUT (power) "Power Output Pins. Apply the output filter capacitor and the output load between these pins and GND pins.", C3 VOUT (power) "Power Output Pins. Apply the output filter capacitor and the output load between these pins and GND pins.", C4 VOUT (power) "Power Output Pins. Apply the output filter capacitor and the output load between these pins and GND pins.", D1 VOUT (power) "Power Output Pins. Apply the output filter capacitor and the output load between these pins and GND pins.", D2 VOUT (power) "Power Output Pins. Apply the output filter capacitor and the output load between these pins and GND pins.", D3 VOUT (power) "Power Output Pins. Apply the output filter capacitor and the output load between these pins and GND pins.", D4 VOUT (power) "Power Output Pins. Apply the output filter capacitor and the output load between these pins and GND pins.", G7 RT (in), H4 BIAS (power) "The BIAS pin connects to the internal power bus. Connect to a power source greater than 2.8V. If the output is greater than 2.8V, connect this pin to AUX. If the output voltage is less, connect this to a voltage source (See Datasheet)", H5 AUX (power) "Low Current Voltage Source for BIAS. The AUX pin is internally connected to VOUT and is placed adjacent to the BIAS pin to ease printed circuit board routing. Although this pin is internally connected to VOUT, do not connect (See Datasheet)", H7 SHARE, J7 ADJ (in), K1 VIN (power), K2 VIN (power), K3 FIN (in) "Filtered Input. This is the node after the input EMI filter. Use this only if there is a need to modify the behavior of the integrated EMI filter or if VIN rises or falls rapidly; otherwise, leave these pins unconnected. See (See Datasheet)", K7 PGOOD (oc) "The PGOOD pin is the open-collector output of an internal comparator. PGOOD remains low until the ADJ pin is within 10% of the final regulation voltage. The PGOOD output is valid when VIN is above 3.6V and RUN/SS is high. If (See Datasheet)", L1 VIN (power), L2 VIN (power), L3 FIN (in) "Filtered Input. This is the node after the input EMI filter. Use this only if there is a need to modify the behavior of the integrated EMI filter or if VIN rises or falls rapidly; otherwise, leave these pins unconnected. See (See Datasheet)", L5 RUN/SS (in), L6 SYNC (in) "This is the external clock synchronization input. Ground this pin for low ripple Burst Mode(R) operation at low output loads. Tie to a stable voltage source greater than 0.7V to disable Burst Mode operation. Do not leave (See Datasheet)"
part B pins: A5 GND (power), A6 GND (power), A7 GND (power), B5 GND (power), B6 GND (power), B7 GND (power), C5 GND (power), C6 GND (power), C7 GND (power), D5 GND (power), D6 GND (power), D7 GND (power), E1 GND (power), E2 GND (power), E3 GND (power), E4 GND (power), E5 GND (power), E6 GND (power), E7 GND (power), F1 GND (power), F2 GND (power), F3 GND (power), F4 GND (power), F5 GND (power), F6 GND (power), F7 GND (power), G1 GND (power), G2 GND (power), G3 GND (power), G4 GND (power), G5 GND (power), G6 GND (power), H1 GND (power), H2 GND (power), H3 GND (power), H6 GND (power), J5 GND (power), J6 GND (power), K5 GND (power), K6 GND (power), L7 GND (power)

## LTM8032IY#PBF
designator U?
EN55022B Compliant 36 V, 2 A DC/DC uModule Regulator, 71-pin BGA, -40 to 125 degC, Pb-Free, Tray; Manufacturer: Linear Technology; PartNumber: LTM8032IY#PBF; Extended Temp: E, I, MP; Frequency Adjust Range: 200kHz - 2.4MHz; Frequency Sync Range: 250kHz - 2MHz; Frequency(kHz): 2400; Ishutdown(uA): 1; Isupply(mA): 0.025; Output Current(A): 2; Switch Current(A): 3; Synchronous: no; Topology: Buck; Vin Max(V): 36; Vin Min(V): 3.6; DatasheetVersion: Rev. F; PackageVersion: Rev. A, 01/2013; PackageReference: BGA-71; PackageDescription: 71-Ball BGA, Body 15 x 9 mm, Pitch 1.27 mm; Supplier 1: Digi-Key; Supplier Part Number 1: LTM8032IY#PBF-ND; Supplier 2: Newark; Supplier Part Number 2: 78T3670; Number of Outputs: 1; Packing: Tray; RoHS: TRUE; Tracking: no; Mounting Technology: Surface Mount; Code_JEDEC: MS-028; ComponentLink1Description: Manufacturer URL; ComponentLink1URL: http://www.linear.com/; ComponentLink2Description: Datasheet; ComponentLink2URL: http://cds.linear.com/docs/en/datasheet/8032ff.pdf; ComponentLink3Description: Package Specification; ComponentLink3URL: http://cds.linear.com/docs/en/packaging/05081885_A_bga71.pdf
footprint LT-BGA-71-15000X9000X3420 (BGA, 71-Balls, Body 15x9mm, Pitch 1.27mm)
part A pins: A1 VOUT (power) "Power Output Pins. Apply the output filter capacitor and the output load between these pins and GND pins.", A2 VOUT (power) "Power Output Pins. Apply the output filter capacitor and the output load between these pins and GND pins.", A3 VOUT (power) "Power Output Pins. Apply the output filter capacitor and the output load between these pins and GND pins.", A4 VOUT (power) "Power Output Pins. Apply the output filter capacitor and the output load between these pins and GND pins.", B1 VOUT (power) "Power Output Pins. Apply the output filter capacitor and the output load between these pins and GND pins.", B2 VOUT (power) "Power Output Pins. Apply the output filter capacitor and the output load between these pins and GND pins.", B3 VOUT (power) "Power Output Pins. Apply the output filter capacitor and the output load between these pins and GND pins.", B4 VOUT (power) "Power Output Pins. Apply the output filter capacitor and the output load between these pins and GND pins.", C1 VOUT (power) "Power Output Pins. Apply the output filter capacitor and the output load between these pins and GND pins.", C2 VOUT (power) "Power Output Pins. Apply the output filter capacitor and the output load between these pins and GND pins.", C3 VOUT (power) "Power Output Pins. Apply the output filter capacitor and the output load between these pins and GND pins.", C4 VOUT (power) "Power Output Pins. Apply the output filter capacitor and the output load between these pins and GND pins.", D1 VOUT (power) "Power Output Pins. Apply the output filter capacitor and the output load between these pins and GND pins.", D2 VOUT (power) "Power Output Pins. Apply the output filter capacitor and the output load between these pins and GND pins.", D3 VOUT (power) "Power Output Pins. Apply the output filter capacitor and the output load between these pins and GND pins.", D4 VOUT (power) "Power Output Pins. Apply the output filter capacitor and the output load between these pins and GND pins.", G7 RT (in), H4 BIAS (power) "The BIAS pin connects to the internal power bus. Connect to a power source greater than 2.8V. If the output is greater than 2.8V, connect this pin to AUX. If the output voltage is less, connect this to a voltage source (See Datasheet)", H5 AUX (power) "Low Current Voltage Source for BIAS. The AUX pin is internally connected to VOUT and is placed adjacent to the BIAS pin to ease printed circuit board routing. Although this pin is internally connected to VOUT, do not connect (See Datasheet)", H7 SHARE, J7 ADJ (in), K1 VIN (power), K2 VIN (power), K3 FIN (in) "Filtered Input. This is the node after the input EMI filter. Use this only if there is a need to modify the behavior of the integrated EMI filter or if VIN rises or falls rapidly; otherwise, leave these pins unconnected. See (See Datasheet)", K7 PGOOD (oc) "The PGOOD pin is the open-collector output of an internal comparator. PGOOD remains low until the ADJ pin is within 10% of the final regulation voltage. The PGOOD output is valid when VIN is above 3.6V and RUN/SS is high. If (See Datasheet)", L1 VIN (power), L2 VIN (power), L3 FIN (in) "Filtered Input. This is the node after the input EMI filter. Use this only if there is a need to modify the behavior of the integrated EMI filter or if VIN rises or falls rapidly; otherwise, leave these pins unconnected. See (See Datasheet)", L5 RUN/SS (in), L6 SYNC (in) "This is the external clock synchronization input. Ground this pin for low ripple Burst Mode(R) operation at low output loads. Tie to a stable voltage source greater than 0.7V to disable Burst Mode operation. Do not leave (See Datasheet)"
part B pins: A5 GND (power), A6 GND (power), A7 GND (power), B5 GND (power), B6 GND (power), B7 GND (power), C5 GND (power), C6 GND (power), C7 GND (power), D5 GND (power), D6 GND (power), D7 GND (power), E1 GND (power), E2 GND (power), E3 GND (power), E4 GND (power), E5 GND (power), E6 GND (power), E7 GND (power), F1 GND (power), F2 GND (power), F3 GND (power), F4 GND (power), F5 GND (power), F6 GND (power), F7 GND (power), G1 GND (power), G2 GND (power), G3 GND (power), G4 GND (power), G5 GND (power), G6 GND (power), H1 GND (power), H2 GND (power), H3 GND (power), H6 GND (power), J5 GND (power), J6 GND (power), K5 GND (power), K6 GND (power), L7 GND (power)